# Altium schematic symbol library SYNCBOX_V3I1.SCHLIB: 130 symbols (part 3 of 4)
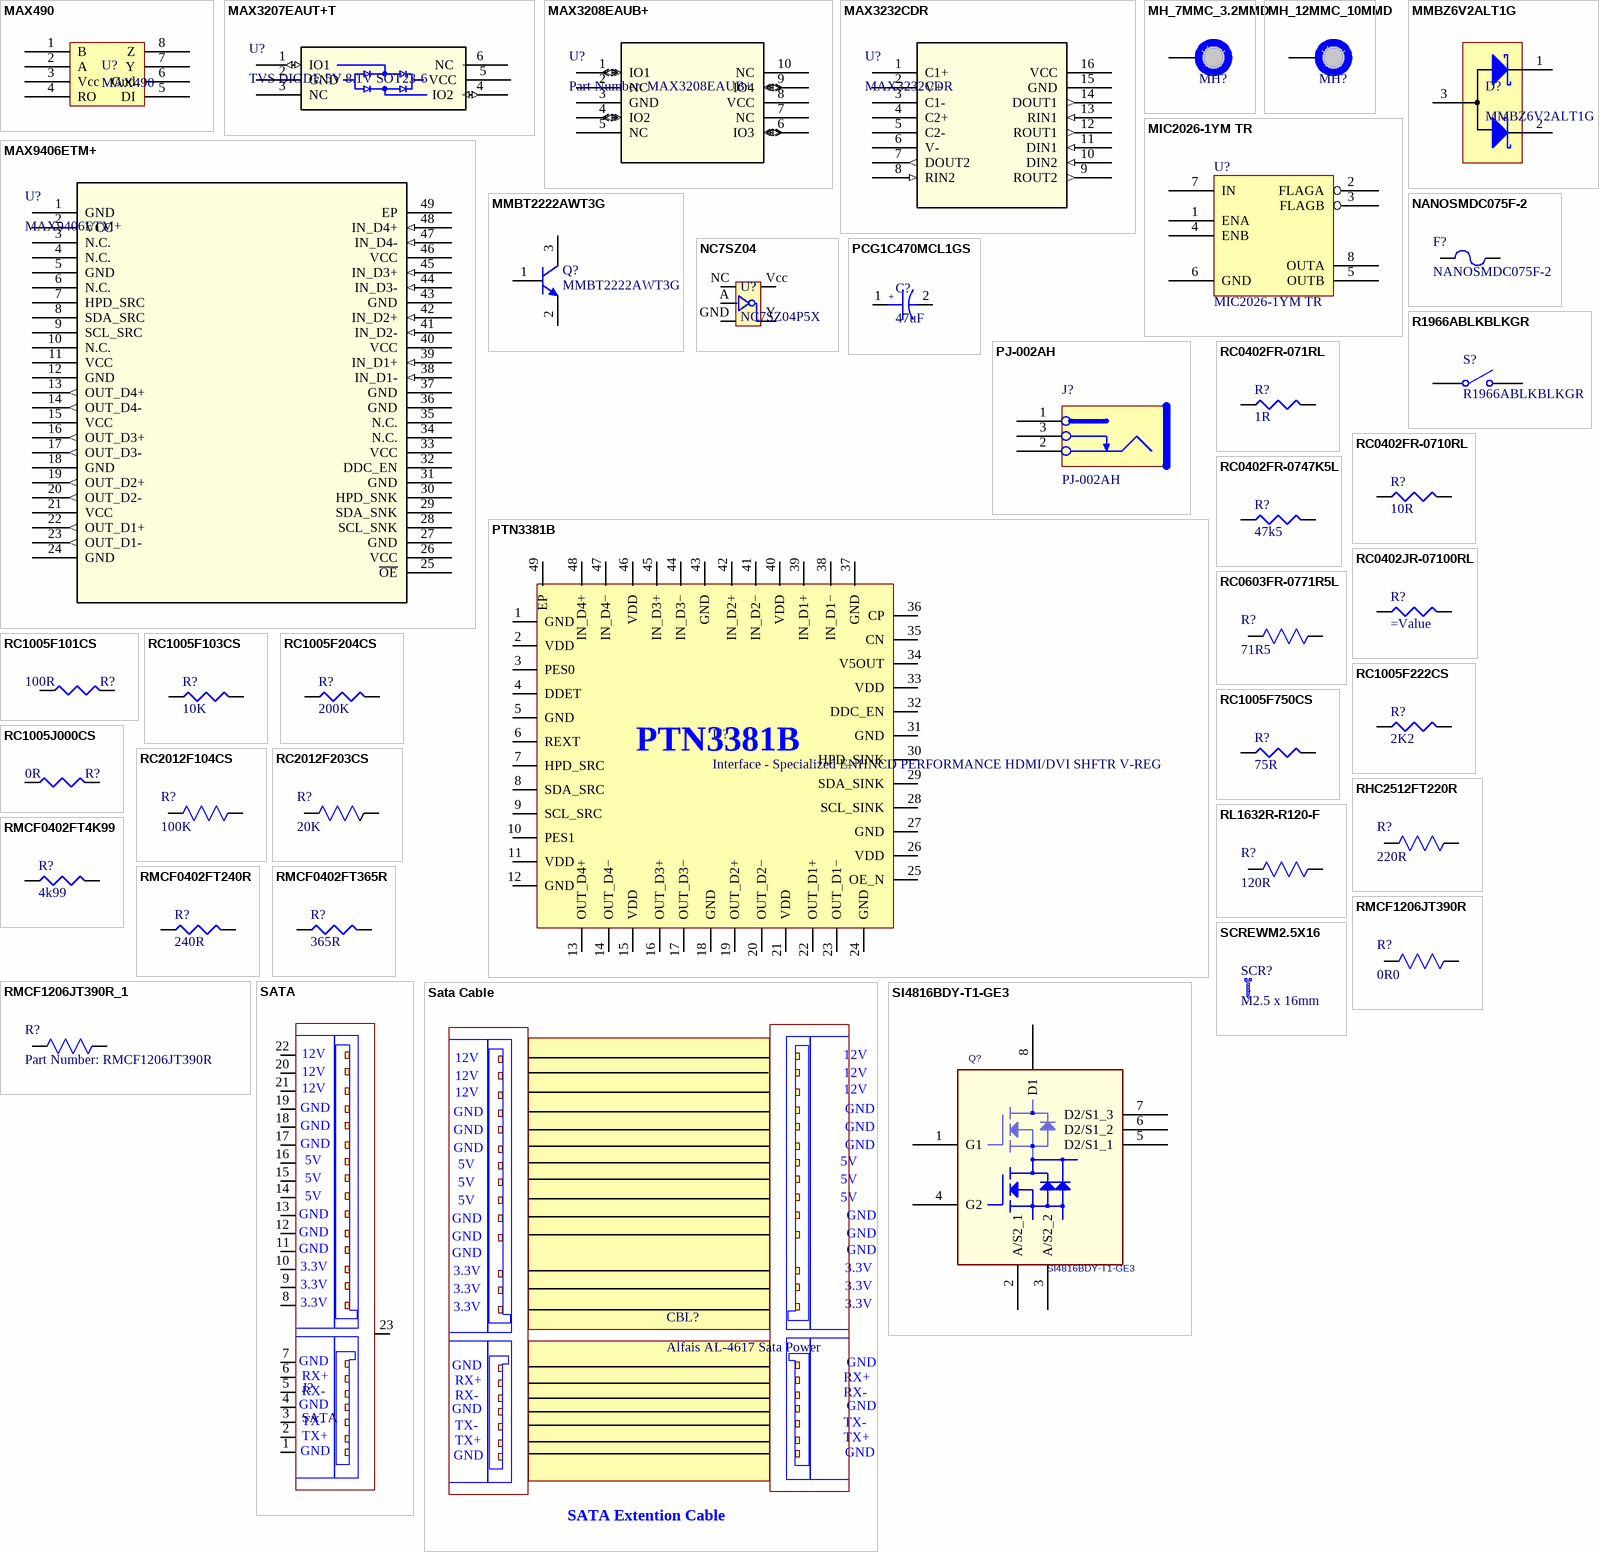
[diagram p5: symbols MAX490 to SI4816BDY-T1-GE3]

## MAX3232CDR
designator U?
IC DRVR/RCVR MULTCH RS232 16SOIC; Vendor: Texas Instruments; Built_By: EMA_UL_Team; C: Copyright (C) 2015 Accelerated Designs. All rights reserved; Number of Drivers/Receivers: 2/2; Duplex: Full; Data Rate: 250kbps; Voltage - Supply: 3 V ~ 5.5 V; Manufacturer_Part_Number: MAX3232CDR; RefDes: RefDes; Type: DEV; Value: Value; Manufacturer 1: Texas Instruments; Manufacturer Part Number 1: MAX3232CDR; RoHS: RoHS Compliant; Stock 1: 20719; Pricing 1: 1=1.89, 10=1.695, 100=1.3624, 500=1.11936, 1000=0.92746 (USD); Packaging: Cut Tape (CT); Part Status: Active; Protocol: RS232; Operating Temperature: 0°C ~ 70°C; Mounting Type: Surface Mount; Package / Case: 16-SOIC (0.154", 3.90mm Width); Supplier Device Package: 16-SOIC; Base Part Number: MAX3232; ComponentLink1URL: http://www.ti.com/lit/ds/symlink/max3232.pdf; ComponentLink1Description: http://www.ti.com/lit/ds/symlink/max3232.pdf; Supplier 1: Digi-Key; Supplier Part Number 1: 296-13094-1-ND; Description 1: IC DRVR/RCVR MULTCH RS232 16SOIC; Category: Integrated Circuits (ICs)
footprint D16
pins: 1 C1+, 2 V+ (power), 3 C1-, 4 C2+, 5 C2-, 6 V- (power), 7 DOUT2 (out), 8 RIN2 (in), 9 ROUT2 (out), 10 DIN2 (in), 11 DIN1 (in), 12 ROUT1 (out), 13 RIN1 (in), 14 DOUT1 (out), 15 GND (power), 16 VCC (power)

## MAX9406ETM+
designator U?
IC DVI/HDMI LVL SHIFTR 48TQFN; Manufacturer 1: Maxim Integrated; Manufacturer Part Number 1: MAX9406ETM+; RoHS: RoHS Compliant; Stock 1: 162; Pricing 1: 1=3.75, 10=3.563, 25=2.94, 50=2.793, 250=2.70752, 500=2.44832 (USD); Packaging: Tube; Part Status: Active; Type: Level Shifter; Applications: Base Stations; Mounting Type: Surface Mount; Package / Case: 48-WFQFN Exposed Pad; Supplier Device Package: 48-TQFN (7x7); Base Part Number: MAX9406; ComponentLink1URL: https://datasheets.maximintegrated.com/en/ds/MAX9406.pdf; ComponentLink1Description: https://datasheets.maximintegrated.com/en/ds/MAX9406.pdf; Supplier 1: Digi-Key; Supplier Part Number 1: MAX9406ETM+-ND; Description 1: IC DVI/HDMI LVL SHIFTR 48TQFN; Category: Integrated Circuits (ICs)
footprint 21-0144H_T4877-6
footprint 21-0144H_T487700
footprint 21-0144H_T487701
pins: 1 GND (power), 2 VCC (power), 3 N.C., 4 N.C., 5 GND (power), 6 N.C., 7 HPD_SRC, 8 SDA_SRC, 9 SCL_SRC, 10 N.C., 11 VCC (power), 12 GND (power), 13 OUT_D4+ (out), 14 OUT_D4- (out), 15 VCC (power), 16 OUT_D3+ (out), 17 OUT_D3- (out), 18 GND (power), 19 OUT_D2+ (out), 20 OUT_D2- (out), 21 VCC, 22 OUT_D1+ (out), 23 OUT_D1- (out), 24 GND (power), 25 ~{OE}, 26 VCC (power), 27 GND (power), 28 SCL_SNK, 29 SDA_SNK, 30 HPD_SNK, 31 GND (power), 32 DDC_EN, 33 VCC (power), 34 N.C., 35 N.C., 36 GND (power), 37 GND (power), 38 IN_D1- (in), 39 IN_D1+ (in), 40 VCC (power), 41 IN_D2- (in), 42 IN_D2+ (in), 43 GND (power), 44 IN_D3- (in), 45 IN_D3+ (in), 46 VCC (power), 47 IN_D4- (in), 48 IN_D4+ (in), 49 EP

## MH_7MMC_3.2MMD
designator MH?  (value not drawn)  (no BOM)
Mounting Hole 7mm Diameter, 3.2mm Drill
footprint MH_7MMC_3.2MMD
pins: 1

## MH_12MMC_10MMD
designator MH?  (value not drawn)  (no BOM)
Mounting Hole 12mm Diameter, 10mm Drill
footprint MH_12MMC_10MMD (Mounting hole)
pins: 1

## MIC2026-1YM TR
designator U?
IC SW DISTRIBUTION 2CHAN 8SOIC; Manufacturer: Micrel Inc; .Checked PCB: used; Number of Outputs: 2; Rds (On): 140 mOhm; Internal Switch(s): Yes; Current Limit: 900mA; Voltage - Input: 2.7 V ~ 5.5 V; .Checked SCH: used; Category: Integrated Circuits (ICs); Family: PMIC - Power Distribution Switches; Manufacturer Part Number: MIC2026-1YM TR; Operating Temperature: -40°C ~ 85°C; Package / Case: 8-SOIC (0.154", 3.90mm Width); Price 1k [$]: 0.53200; Supplier: Digikey; Supplier Part Number: 576-1059-1-ND; Value: MIC2026-1YM TR; Supplier 1: Digi-Key; Supplier Part Number 1: 576-1059-1-ND; RoHS: RoHS Compliant; Stock 1: 44857; Pricing 1: 1=1.14, 25=0.95, 100=0.76, 250=0.57, 500=0.532 (USD); Type: High Side Switch; Mounting Type: Surface Mount; Supplier Device Package: 8-SOIC; Packaging: Cut Tape (CT); ComponentLink1URL: http://www.micrel.com/_PDF/mic2026.pdf; ComponentLink1Description: http://www.micrel.com/_PDF/mic2026.pdf
footprint 8_SOIC_3.9MM
pins: 1 ENA, 2 FLAGA, 3 FLAGB, 4 ENB, 5 OUTB, 6 GND (power), 7 IN (power), 8 OUTA

## MMBT2222AWT3G
designator Q?
TRANS NPN 40V 0.6A SC70-3; Manufacturer 1: ON Semiconductor; Vce Saturation (Max) @ Ib, Ic: 1V @ 50mA, 500mA; DC Current Gain (hFE) (Min) @ Ic, Vce: 100 @ 150mA, 10V; Frequency - Transition: 300MHz; Manufacturer Part Number 1: MMBT2222AWT3G; RoHS: RoHS Compliant; Stock 1: 9990; Pricing 1: 1=0.14, 10=0.126, 100=0.0688, 500=0.04236, 1000=0.02889 (USD); Packaging: Digi-Reel®; Part Status: Active; Transistor Type: NPN; Current - Collector Cutoff (Max): -; Operating Temperature: -55°C ~ 150°C (TJ); Mounting Type: Surface Mount; Package / Case: SC-70, SOT-323; Supplier Device Package: SC-70-3 (SOT323); Base Part Number: MMBT2222A; ComponentLink1URL: http://www.onsemi.com/pub/Collateral/MMBT2222AWT1-D.PDF; ComponentLink1Description: http://www.onsemi.com/pub/Collateral/MMBT2222AWT1-D.PDF; Supplier 1: Digi-Key; Supplier Part Number 1: MMBT2222AWT3GOSDKR-ND; Description 1: TRANS NPN 40V 0.6A SC70-3; Category: Discrete Semiconductor Products
footprint SC70_SOT323
pins: 1 B, 2 E, 3 C

## MMBZ6V2ALT1G
designator D?
TVS DIODE 3V 8.7V SOT23-3; Manufacturer 1: ON Semiconductor; Type: Zener; Voltage - Breakdown (Min): 5.89V; Current - Peak Pulse (10/1000µs): 2.76A; Power - Peak Pulse: 24W; Power Line Protection: No; Manufacturer Part Number 1: MMBZ6V2ALT1G; RoHS: RoHS Compliant; Stock 1: 1537; Pricing 1: 1=0.21, 10=0.172, 100=0.0912, 500=0.06, 1000=0.04081 (USD); Packaging: Cut Tape (CT); Part Status: Active; Voltage - Reverse Standoff (Typ): 3V; Voltage - Clamping (Max) @ Ipp: 8.7V; Applications: Automotive; Capacitance @ Frequency: -; Operating Temperature: -55°C ~ 150°C (TJ); Mounting Type: Surface Mount; Package / Case: TO-236-3, SC-59, SOT-23-3; Supplier Device Package: SOT-23-3 (TO-236); Base Part Number: MMBZ*A; ComponentLink1URL: http://www.onsemi.com/pub/Collateral/MMBZ5V6ALT1-D.PDF; ComponentLink1Description: http://www.onsemi.com/pub/Collateral/MMBZ5V6ALT1-D.PDF; Supplier 1: Digi-Key; Supplier Part Number 1: MMBZ6V2ALT1GOSCT-ND; Description 1: TVS DIODE 3V 8.7V SOT23-3; Category: Circuit Protection
footprint MMBZ6V2ALT1G
pins: 1, 2, 3

## NANOSMDC075F-2
designator F?
PTC RESET FUSE 6V 750MA 1206; Manufacturer 1: Littelfuse Inc.; Vendor: TE Connectivity; Built_By: EMA_UL_Team; Type: DEV; C: Copyright (C) 2015 Accelerated Designs. All rights reserved; Approvals: CSA, TUV, UL; Manufacturer_Part_Number: NANOSMDC075F-2; RefDes: RefDes; Value: Value; Manufacturer Part Number 1: NANOSMDC075F-2; RoHS: RoHS Compliant; Stock 1: 13379; Pricing 1: 1=0.54, 5=0.528, 10=0.512, 50=0.4306, 100=0.3575, 250=0.325, 500=0.27626, 1000=0.24375 (USD); Packaging: Cut Tape (CT); Part Status: Active; Voltage - Max: 6V; Operating Temperature: -40°C ~ 85°C; Ratings: -; Mounting Type: Surface Mount; Package / Case: 1206 (3216 Metric), Concave; Size / Dimension: 0.126" L x 0.063" W (3.20mm x 1.59mm); Height - Seated (Max): -; Thickness (Max): 0.027" (0.68mm); Lead Spacing: -; ComponentLink1URL: http://www.littelfuse.com/~/media/electronics/product_specifications/resettable_ptcs/littelfuse_ptc_nanosmdc075f_2_product_specification.pdf.pdf; ComponentLink1Description: http://www.littelfuse.com/~/media/electronics/product_specifications/resettable_ptcs/littelfuse_ptc_nanosmdc075f_2_product_specification.pdf.pdf; Supplier 1: Digi-Key; Supplier Part Number 1: NANOSMDC075F-2CT-ND; Description 1: PTC RESET FUSE 6V 750MA 1206; Category: Circuit Protection
footprint FUS_NANO_TYCO
footprint FUS_NANO_TYCO-L
footprint FUS_NANO_TYCO-M
pins: 1, 2

## NC7SZ04
designator U?, comment NC7SZ04P5X
IC INVERTER 1CH 1-INP SC70-5; Manufacturer 1: ON Semiconductor; Number of Inputs: 1; Voltage - Supply: 1.65 V ~ 5.5 V; Current - Output High, Low: 32mA, 32mA; Max Propagation Delay @ V, Max CL: 4.3ns @ 5V, 50pF; Manufacturer Part Number 1: NC7SZ04P5X; RoHS: RoHS Compliant; Stock 1: 48414; Pricing 1: 1=0.36, 10=0.269, 100=0.1526, 500=0.10104, 1000=0.07746 (USD); Packaging: Cut Tape (CT); Part Status: Active; Logic Type: Inverter; Features: -; Logic Level - Low: -; Logic Level - High: -; Operating Temperature: -40°C ~ 85°C; Mounting Type: Surface Mount; Supplier Device Package: SC-70-5; Package / Case: 5-TSSOP, SC-70-5, SOT-353; Base Part Number: 7SZ04; ComponentLink1URL: https://www.fairchildsemi.com/datasheets/NC/NC7SZ04.pdf; ComponentLink1Description: https://www.fairchildsemi.com/datasheets/NC/NC7SZ04.pdf; Supplier 1: Digi-Key; Supplier Part Number 1: NC7SZ04P5XCT-ND; Description 1: IC INVERTER 1CH 1-INP SC70-5; Category: Integrated Circuits (ICs)
footprint NC7SZ04P5X
pins: A 2, GND 3, NC 1, Vcc 4, Y 5 (hiz)

## PCG1C470MCL1GS
designator C?, comment 47uF
CAP ALUM POLY 47UF 20% 16V SMD; Manufacturer 1: Nichicon; Manufacturer Part Number 1: PCG1C470MCL1GS; Type: Polymer; ESR (Equivalent Series Resistance): 40 mOhm; Lifetime @ Temp.: 2000 Hrs @ 105°C; Surface Mount Land Size: 0.209" L x 0.209" W (5.30mm x 5.30mm); RoHS: RoHS Compliant; Stock 1: 4045; Pricing 1: 1=1.42, 10=1.123, 100=0.8422, 500=0.63636 (USD); Packaging: Digi-Reel®; Part Status: Active; Tolerance: ±20%; Operating Temperature: -55°C ~ 105°C; Ratings: -; Applications: General Purpose; Lead Spacing: -; Size / Dimension: 0.197" Dia (5.00mm); Height - Seated (Max): 0.236" (6.00mm); Mounting Type: Surface Mount; Package / Case: Radial, Can - SMD; ComponentLink1URL: http://nichicon-us.com/english/products/pdfs/e-pcg.pdf; ComponentLink1Description: http://nichicon-us.com/english/products/pdfs/e-pcg.pdf; Supplier 1: Digi-Key; Supplier Part Number 1: 493-3095-6-ND; Description 1: CAP ALUM POLY 47UF 20% 16V SMD; Category: Capacitors
footprint CAP_P-B
footprint CAP_P-B-L
footprint CAP_P-B-M
pins: 1, 2
text: +

## PJ-002AH
designator J?
CONN PWR JACK 2.1X5.5MM HIGH CUR; Manufacturer: CUI Inc; .Checked PCB: used; Mating connector: 2.1mm ID, 5.5mm OD; Gender: Male; Number of Positions/Contacts: 2 Conductors, 3 Contacts; Internal Switch(s): Single Switch, Normally Closed; Shielding: Unshielded; Voltage - Rated: 24VDC; Current Rating: 5A; .Checked SCH: used; Category: Connectors, Interconnects; Family: Barrel - Power; Manufacturer Part Number: PJ-002AH; Operating Temperature: -25°C ~ 85°C; Price 1k [$]: 0.23625; Supplier: Digikey; Supplier Part Number: CP-002AH-ND; Value: PJ-002AH; Supplier 1: Digi-Key; Supplier Part Number 1: CP-002AH-ND; RoHS: RoHS Compliant; Stock 1: 138933; Pricing 1: 1=1.01, 10=0.704, 100=0.4724, 500=0.3819, 1000=0.3417, 2500=0.27135 (USD); Connector Type: Jack; Plug/Mating Plug Diameter: 2.1mm ID, 5.5mm OD; Mounting Type: Through Hole, Right Angle; Termination: Solder Eyelet(s); Features: -; Color: Black; Contact Material: Copper Alloy; Contact Material - Plating: Nickel; Housing Color: Black; Housing Material: Thermoplastic; ComponentLink1URL: http://products.cui.com/GetSpecForDigiKey.aspx?MFGNum=PJ-002AH; ComponentLink1Description: http://products.cui.com/GetSpecForDigiKey.aspx?MFGNum=PJ-002AH
footprint POWER_JACK_5.5_2.1MM_NS
pins: 1, 2, 3

## PTN3381B
designator U?, comment Interface - Specialized ENHNCD PERFORMANCE HDMI/DVI SHFTR V-REG
Manufacturer 1: NXP; Manufacturer Part Number 1: PTN3381BBS,518; Brand: NXP Semiconductors; RoHS: RoHS Compliant; Stock 1: 2570; Pricing 1: 1=1.94, 10=1.65, 100=1.32, 500=1.15, 1000=0.952, 4000=0.854, 8000=0.821 (USD); Packaging: Cut Tape; Product Type: Interface - Specialized; Standard Pack Qty: 4000; Subcategory: Interface ICs; RoHS - Mouser: Y; Minimum Order Quantity: 1; Reeling: True; ComponentLink1URL: https://www.mouser.com/datasheet/2/302/PTN3381B-1127737.pdf; ComponentLink1Description: https://www.mouser.com/datasheet/2/302/PTN3381B-1127737.pdf; Supplier 1: Mouser; Supplier Part Number 1: 771-PTN3381BBS518; Description 1: Interface - Specialized ENHNCD PERFORMANCE HDMI/DVI SHFTR V-REG; Category: Interface - Specialized
footprint HVQFN48
pins: 1 GND, 2 VDD, 3 PES0, 4 DDET, 5 GND, 6 REXT, 7 HPD_SRC, 8 SDA_SRC, 9 SCL_SRC, 10 PES1, 11 VDD, 12 GND, 13 OUT_D4+, 14 OUT_D4−, 15 VDD, 16 OUT_D3+, 17 OUT_D3−, 18 GND, 19 OUT_D2+, 20 OUT_D2−, 21 VDD, 22 OUT_D1+, 23 OUT_D1−, 24 GND, 25 OE_N, 26 VDD, 27 GND, 28 SCL_SINK, 29 SDA_SINK, 30 HPD_SINK, 31 GND, 32 DDC_EN, 33 VDD, 34 V5OUT, 35 CN, 36 CP, 37 GND, 38 IN_D1−, 39 IN_D1+, 40 VDD, 41 IN_D2−, 42 IN_D2+, 43 GND, 44 IN_D3−, 45 IN_D3+, 46 VDD, 47 IN_D4−, 48 IN_D4+, 49 EP

## R1966ABLKBLKGR
designator S?
SWITCH ROCKER SPST 15A 125V; Manufacturer 1: E-Switch; Switch Function: On-Off; Current Rating: 15A (AC); Actuator Type: Concave (Curved); Color - Actuator/Cap: Black; Actuator Marking: O I; Mechanical Life: 30,000 Cycles; Electrical Life: 10,000 Cycles; Published: 24-Mar-1999; LatestRevisionDate: 17-Jul-2002; LatestRevisionNote: Re-released for DXP Platform.; PackageReference: SPST-2; Publisher: Altium Limited; PackageDescription: Switch; 2 Leads; Manufacturer Part Number 1: R1966ABLKBLKGR; RoHS: RoHS Compliant; Stock 1: 9; Pricing 1: 1=1.58, 10=1.507, 25=1.4384, 50=1.37, 100=1.3015, 250=1.26724, 500=1.19876, 1000=1.06175, 5000=1.0275 (USD); Packaging: Bulk; Part Status: Active; Circuit: SPST; Illumination Type, Color: -; Illumination Voltage (Nominal): -; Mounting Type: Panel Mount, Snap-In, Right Angle; Termination Style: PC Pin; Ingress Protection: -; Features: -; Panel Cutout Dimensions: Rectangular - 19.40mm x 13.00mm; Operating Temperature: -30°C ~ 65°C; ComponentLink1URL: http://spec_sheets.e-switch.com/specs/M301223.pdf; ComponentLink1Description: http://spec_sheets.e-switch.com/specs/M301223.pdf; Supplier 1: Digi-Key; Supplier Part Number 1: EG2578-ND; Description 1: SWITCH ROCKER SPST 15A 125V; Category: Switches
footprint RockerSwitch
pins: 1 COMMON, 2 NO

## RC0402FR-071RL
designator R?, comment 1R
RES 1.00 OHM 1/16W 1% 0402 SM; Manufacturer: Yageo; Manufacturer Part Number: RC0402FR-071RL; Resistance (Ohms): 1; Power (Watts): 0.063W, 1/16W; .Checked PCB: used; Temperature Coefficient: ±200ppm/°C; Category: Resistors; Package / Case: 0402 (1005 Metric); Price 1k [$]: 0.01421; Tolerance: ±1%; Value: 1R; .Checked SCH: used; Supplier Part Number: 311-1.00LRCT-ND; Supplier: Digikey; Supplier 1: Digi-Key; Supplier Part Number 1: 311-1.00LRCT-ND; RoHS: RoHS Compliant; Stock 1: 347765; Pricing 1: 10=0.019, 50=0.0142, 100=0.0109, 250=0.00808, 500=0.00596, 1000=0.00397 (USD); Composition: Thick Film; Features: -; Size / Dimension: 0.039" L x 0.020" W (1.00mm x 0.50mm); Height: 0.016" (0.40mm); Number of Terminations: 2; Packaging: Cut Tape (CT); ComponentLink1URL: http://www.yageo.com/documents/recent/PYu-RC0402_51_RoHS_L_6.pdf; ComponentLink1Description: http://www.yageo.com/documents/recent/PYu-RC0402_51_RoHS_L_6.pdf
footprint R0402
pins: 1, 2

## RC0402FR-0710RL
designator R?, comment 10R
RES 10.0 OHM 1/16W 1% 0402 SMD; Manufacturer: Yageo; Manufacturer Part Number: RC0402FR-0710RL; Resistance (Ohms): 10; Power (Watts): 0.063W, 1/16W; .Checked PCB: used; Temperature Coefficient: ±200ppm/°C; Category: Resistors; Package / Case: 0402 (1005 Metric); Price 1k [$]: 0.01421; Tolerance: ±1%; Value: 10R; .Checked SCH: used; Supplier Part Number: 311-10.0LRCT-ND; Supplier: Digikey; Supplier 1: Digi-Key; Supplier Part Number 1: 311-10.0LRCT-ND; RoHS: RoHS Compliant; Stock 1: 681416; Pricing 1: 10=0.014, 50=0.0104, 100=0.0079, 250=0.00584, 500=0.00432, 1000=0.00288 (USD); Composition: Thick Film; Features: -; Size / Dimension: 0.039" L x 0.020" W (1.00mm x 0.50mm); Height: 0.016" (0.40mm); Number of Terminations: 2; Packaging: Cut Tape (CT); ComponentLink1URL: http://www.yageo.com/documents/recent/PYu-RC0402_51_RoHS_L_6.pdf; ComponentLink1Description: http://www.yageo.com/documents/recent/PYu-RC0402_51_RoHS_L_6.pdf
footprint R0402
pins: 1, 2

## RC0402FR-0747K5L
designator R?, comment 47k5
RES 47.5K OHM 1/16W 1% 0402 SMD; Manufacturer: Yageo; Manufacturer Part Number: RC0402FR-0747K5L; Power (Watts): 0.063W, 1/16W; Temperature Coefficient: ±100ppm/°C; .Checked PCB: RF; Supplier 1: Digi-Key; Supplier Part Number 1: 311-47.5KLRCT-ND; RoHS: RoHS Compliant; Category: Resistors; Stock 1: 59607; Pricing 1: 10=0.014, 100=0.0063, 500=0.00382, 1000=0.0027, 5000=0.00203 (USD); Resistance (Ohms): 47.5K; Composition: Thick Film; Features: -; Tolerance: ±1%; Package / Case: 0402 (1005 Metric); Size / Dimension: 0.039" L x 0.020" W (1.00mm x 0.50mm); Height: 0.016" (0.40mm); Number of Terminations: 2; Packaging: Cut Tape (CT); ComponentLink1URL: http://www.yageo.com/documents/recent/PYu-RC0402_51_RoHS_L_6.pdf; ComponentLink1Description: http://www.yageo.com/documents/recent/PYu-RC0402_51_RoHS_L_6.pdf; .Checked SCH: RF
footprint R0402
pins: 1, 2

## RC0402JR-07100RL
designator R?
RES SMD 100 OHM 5% 1/16W 0402; Manufacturer 1: Yageo; Manufacturer Part Number 1: RC0402JR-07100RL; .Checked PCB: used; Resistance: 100 Ohms; Power Rating: 62.5 mW (1/16 W); Temperature Coefficient: 100 PPM / C; Voltage Rating: 50 V; Unit Weight: 0.000023 oz; .Checked SCH: used; Stock 1: 1979840; Pricing 1: 1=0.098, 500=0.004, 1500=0.0023, 2500=0.0017, 5000=0.0012 (USD); Product Category: Thick Film Resistors; RoHS: True; Brand: Yageo; Tolerance: 5 %; Case Code - in: 0402; Case Code - mm: 1005; Operating Temperature Range: - 55 C to + 155 C; Series: RC; Height: 0.35 mm; Length: 1 mm; Package / Case: 0402 (1005 metric); Packaging: Reel; Product: Thick Film Resistors General Purpose; Termination Style: SMD/SMT; Type: General Purpose Chip Resistor Surface Mount; Width: 0.5 mm; ComponentLink1URL: http://www.farnell.com/datasheets/2167052.pdf?src-supplier=Element14; ComponentLink1Description: http://www.farnell.com/datasheets/2167052.pdf?src-supplier=Element14; ComponentLink2URL: http://www.yageo.com/documents/recent/PYu-RC_Group_51_RoHS_L_10.pdf?src-supplier=Digi-Key; ComponentLink2Description: http://www.yageo.com/documents/recent/PYu-RC_Group_51_RoHS_L_10.pdf?src-supplier=Digi-Key; ComponentLink3URL: http://www.yageo.com/documents/recent/PYu-RC_Group_51_RoHS_L_9.pdf?src-supplier=Digi-Key; ComponentLink3Description: http://www.yageo.com/documents/recent/PYu-RC_Group_51_RoHS_L_9.pdf?src-supplier=Digi-Key; ComponentLink4URL: http://www.yageo.com/documents/recent/PYu-RC0402_51_RoHS_L_6_r.pdf?src-supplier=Future+Electronics; ComponentLink4Description: http://www.yageo.com/documents/recent/PYu-RC0402_51_RoHS_L_6_r.pdf?src-supplier=Future+Electronics; ComponentLink5URL: http://www.mouser.com/ds/2/447/PYu-RC0402_51_RoHS_L_6_r-8721.pdf?src-supplier=Mouser; ComponentLink5Description: http://www.mouser.com/ds/2/447/PYu-RC0402_51_RoHS_L_6_r-8721.pdf?src-supplier=Mouser; ComponentLink6URL: http://www.farnell.com/datasheets/1018594.pdf?src-supplier=Element14; ComponentLink6Description: http://www.farnell.com/datasheets/1018594.pdf?src-supplier=Element14; Supplier 1: Future Electronics; Supplier Part Number 1: RC0402JR-07100RL-CUTT; Description 1: RES SMD 100 OHM 5% 1/16W 0402
footprint R0402
pins: 1, 2

## RC0603FR-0771R5L
designator R?, comment 71R5
RES SMD 71.5 OHM 1% 1/10W 0603; Manufacturer_Part_Number: RC0603FR-0771R5L; Vendor: Yageo; Built_By: EMA_UL_Team; C: Copyright (C) 2015 Accelerated Designs. All rights reserved; Power (Watts): 0.1W, 1/10W; Temperature Coefficient: ±100ppm/°C; RefDes: RefDes; Type: DEV; Value: Value; Manufacturer 1: Yageo; Manufacturer Part Number 1: RC0603FR-0771R5L; RoHS: RoHS Compliant; Stock 1: 59924; Pricing 1: 1=0.1, 10=0.026, 100=0.0107, 1000=0.00478, 2500=0.00415 (USD); Packaging: Cut Tape (CT); Part Status: Active; Tolerance: ±1%; Composition: Thick Film; Features: Moisture Resistant; Operating Temperature: -55°C ~ 155°C; Package / Case: 0603 (1608 Metric); Supplier Device Package: 0603; Size / Dimension: 0.063" L x 0.032" W (1.60mm x 0.80mm); Height - Seated (Max): 0.022" (0.55mm); Failure Rate: -; ComponentLink1URL: http://www.yageo.com/documents/recent/PYu-RC_Group_51_RoHS_L_9.pdf; ComponentLink1Description: http://www.yageo.com/documents/recent/PYu-RC_Group_51_RoHS_L_9.pdf; Supplier 1: Digi-Key; Supplier Part Number 1: 311-71.5HRCT-ND; Description 1: RES SMD 71.5 OHM 1% 1/10W 0603; Category: Resistors
footprint RC0603N
pins: 1, 2

## RC1005F101CS
designator R?, comment 100R
RES SMD 100 OHM 1% 1/16W 0402; Manufacturer 1: Samsung Electro-Mechanics; Manufacturer Part Number 1: RC1005F101CS; .Checked PCB: RF; Power (Watts): 0.063W, 1/16W; Temperature Coefficient: ±100ppm/°C; .Checked SCH: RF; RoHS: RoHS Compliant; Stock 1: 461434; Pricing 1: 1=0.1, 10=0.021, 100=0.0087, 1000=0.00391, 2500=0.00339, 5000=0.0028 (USD); Packaging: Digi-Reel®; Part Status: Active; Tolerance: ±1%; Composition: Thick Film; Features: Moisture Resistant; Operating Temperature: -55°C ~ 155°C; Package / Case: 0402 (1005 Metric); Supplier Device Package: 0402; Size / Dimension: 0.039" L x 0.020" W (1.00mm x 0.50mm); Height - Seated (Max): 0.016" (0.40mm); Failure Rate: -; ComponentLink1URL: http://www.samsungsem.com/kr/support/product-search/chip-resistor/RC1005F101CS.jsp; ComponentLink1Description: http://www.samsungsem.com/kr/support/product-search/chip-resistor/RC1005F101CS.jsp; Supplier 1: Digi-Key; Supplier Part Number 1: 1276-3429-6-ND; Description 1: RES SMD 100 OHM 1% 1/16W 0402; Category: Resistors; value: 100R
footprint R0402
pins: 1, 2

## RC1005F103CS
designator R?, comment 10K
RES SMD 10K OHM 1% 1/16W 0402; Manufacturer 1: Samsung Electro-Mechanics; Manufacturer Part Number 1: RC1005F103CS; .Checked PCB: used; Power (Watts): 0.063W, 1/16W; Temperature Coefficient: ±100ppm/°C; .Checked SCH: used; RoHS: RoHS Compliant; Stock 1: 12738811; Pricing 1: 1=0.1, 10=0.021, 100=0.0087, 1000=0.00391, 2500=0.00339, 5000=0.0028 (USD); Packaging: Digi-Reel®; Part Status: Active; Tolerance: ±1%; Composition: Thick Film; Features: Moisture Resistant; Operating Temperature: -55°C ~ 155°C; Package / Case: 0402 (1005 Metric); Supplier Device Package: 0402; Size / Dimension: 0.039" L x 0.020" W (1.00mm x 0.50mm); Height - Seated (Max): 0.016" (0.40mm); Failure Rate: -; ComponentLink1URL: http://www.samsungsem.com/kr/support/product-search/chip-resistor/RC1005F103CS.jsp; ComponentLink1Description: http://www.samsungsem.com/kr/support/product-search/chip-resistor/RC1005F103CS.jsp; Supplier 1: Digi-Key; Supplier Part Number 1: 1276-3431-6-ND; Description 1: RES SMD 10K OHM 1% 1/16W 0402; Category: Resistors
footprint R0402
pins: 1, 2

## RC1005F204CS
designator R?, comment 200K
RES SMD 200K OHM 1% 1/16W 0402; Manufacturer 1: Samsung Electro-Mechanics; Manufacturer Part Number 1: RC1005F204CS; .Checked PCB: used; Power (Watts): 0.063W, 1/16W; Temperature Coefficient: ±100ppm/°C; .Checked SCH: used; RoHS: RoHS Compliant; Stock 1: 325433; Pricing 1: 1=0.1, 10=0.021, 100=0.0087, 1000=0.00391, 2500=0.00339, 5000=0.0028 (USD); Packaging: Digi-Reel®; Part Status: Active; Tolerance: ±1%; Composition: Thick Film; Features: Moisture Resistant; Operating Temperature: -55°C ~ 155°C; Package / Case: 0402 (1005 Metric); Supplier Device Package: 0402; Size / Dimension: 0.039" L x 0.020" W (1.00mm x 0.50mm); Height - Seated (Max): 0.016" (0.40mm); Failure Rate: -; ComponentLink1URL: http://www.samsungsem.com/kr/support/product-search/chip-resistor/RC1005F204CS.jsp; ComponentLink1Description: http://www.samsungsem.com/kr/support/product-search/chip-resistor/RC1005F204CS.jsp; Supplier 1: Digi-Key; Supplier Part Number 1: 1276-3449-6-ND; Description 1: RES SMD 200K OHM 1% 1/16W 0402; Category: Resistors
footprint R0402
pins: 1, 2

## RC1005F222CS
designator R?, comment 2K2
RES SMD 2.2K OHM 1% 1/16W 0402; Manufacturer 1: Samsung Electro-Mechanics; Manufacturer Part Number 1: RC1005F222CS; .Checked PCB: used; Power (Watts): 0.063W, 1/16W; Temperature Coefficient: ±100ppm/°C; .Checked SCH: used; RoHS: RoHS Compliant; Stock 1: 956467; Pricing 1: 1=0.1, 10=0.021, 100=0.0087, 1000=0.00391, 2500=0.00339, 5000=0.0028 (USD); Packaging: Digi-Reel®; Part Status: Active; Tolerance: ±1%; Composition: Thick Film; Features: Moisture Resistant; Operating Temperature: -55°C ~ 155°C; Package / Case: 0402 (1005 Metric); Supplier Device Package: 0402; Size / Dimension: 0.039" L x 0.020" W (1.00mm x 0.50mm); Height - Seated (Max): 0.016" (0.40mm); Failure Rate: -; ComponentLink1URL: http://www.samsungsem.com/kr/support/product-search/chip-resistor/RC1005F222CS.jsp; ComponentLink1Description: http://www.samsungsem.com/kr/support/product-search/chip-resistor/RC1005F222CS.jsp; Supplier 1: Digi-Key; Supplier Part Number 1: 1276-4046-6-ND; Description 1: RES SMD 2.2K OHM 1% 1/16W 0402; Category: Resistors
footprint R0402
pins: 1, 2

## RC1005F750CS
designator R?, comment 75R
RES SMD 75 OHM 1% 1/16W 0402; Manufacturer 1: Samsung Electro-Mechanics; Manufacturer Part Number 1: RC1005F750CS; .Checked PCB: used; Power (Watts): 0.063W, 1/16W; Temperature Coefficient: ±100ppm/°C; .Checked SCH: used; RoHS: RoHS Compliant; Stock 1: 924150; Pricing 1: 1=0.1, 10=0.021, 100=0.0087, 1000=0.00391, 2500=0.00339, 5000=0.0028 (USD); Packaging: Digi-Reel®; Part Status: Active; Tolerance: ±1%; Composition: Thick Film; Features: Moisture Resistant; Operating Temperature: -55°C ~ 155°C; Package / Case: 0402 (1005 Metric); Supplier Device Package: 0402; Size / Dimension: 0.039" L x 0.020" W (1.00mm x 0.50mm); Height - Seated (Max): 0.016" (0.40mm); Failure Rate: -; ComponentLink1URL: http://www.samsungsem.com/kr/support/product-search/chip-resistor/RC1005F750CS.jsp; ComponentLink1Description: http://www.samsungsem.com/kr/support/product-search/chip-resistor/RC1005F750CS.jsp; Supplier 1: Digi-Key; Supplier Part Number 1: 1276-3476-6-ND; Description 1: RES SMD 75 OHM 1% 1/16W 0402; Category: Resistors
footprint R0402
pins: 1, 2

## RC1005J000CS
designator R?, comment 0R
RES SMD 0 OHM JUMPER 1/16W 0402; Manufacturer 1: Samsung Electro-Mechanics; Manufacturer Part Number 1: RC1005J000CS; .Checked PCB: used; Power (Watts): 0.063W, 1/16W; .Checked SCH: used; RoHS: RoHS Compliant; Stock 1: 9624698; Pricing 1: 1=0.1, 10=0.016, 25=0.0116, 50=0.009, 100=0.0066, 250=0.005, 500=0.004, 1000=0.00295, 5000=0.00211 (USD); Packaging: Digi-Reel®; Part Status: Active; Tolerance: Jumper; Composition: Thick Film; Features: Moisture Resistant; Temperature Coefficient: -; Operating Temperature: -55°C ~ 155°C; Package / Case: 0402 (1005 Metric); Supplier Device Package: 0402; Size / Dimension: 0.039" L x 0.020" W (1.00mm x 0.50mm); Height - Seated (Max): 0.016" (0.40mm); Failure Rate: -; ComponentLink1URL: http://www.samsungsem.com/kr/support/product-search/chip-resistor/RC1005J000CS.jsp; ComponentLink1Description: http://www.samsungsem.com/kr/support/product-search/chip-resistor/RC1005J000CS.jsp; Supplier 1: Digi-Key; Supplier Part Number 1: 1276-3480-6-ND; Description 1: RES SMD 0 OHM JUMPER 1/16W 0402; Category: Resistors
footprint R0402
pins: 1, 2

## RC2012F104CS
designator R?, comment 100K
RES SMD 100K OHM 1% 1/8W 0805; Manufacturer 1: Samsung Electro-Mechanics; Manufacturer Part Number 1: RC2012F104CS; Power (Watts): 0.125W, 1/8W; Temperature Coefficient: ±100ppm/°C; RoHS: RoHS Compliant; Stock 1: 106479; Pricing 1: 1=0.1, 10=0.059, 100=0.024, 1000=0.01079, 2500=0.00936 (USD); Packaging: Digi-Reel®; Part Status: Active; Tolerance: ±1%; Composition: Thick Film; Features: Moisture Resistant; Operating Temperature: -55°C ~ 155°C; Package / Case: 0805 (2012 Metric); Supplier Device Package: 0805; Size / Dimension: 0.079" L x 0.049" W (2.00mm x 1.25mm); Height - Seated (Max): 0.026" (0.65mm); Failure Rate: -; ComponentLink1URL: http://www.samsungsem.com/kr/support/product-search/chip-resistor/RC2012F104CS.jsp; ComponentLink1Description: http://www.samsungsem.com/kr/support/product-search/chip-resistor/RC2012F104CS.jsp; Supplier 1: Digi-Key; Supplier Part Number 1: 1276-3512-6-ND; Description 1: RES SMD 100K OHM 1% 1/8W 0805; Category: Resistors
footprint STA_RNCP0805
footprint STA_RNCP0805-L
footprint STA_RNCP0805-M
pins: 1, 2

## RC2012F203CS
designator R?, comment 20K
RES SMD 20K OHM 1% 1/8W 0805; Manufacturer 1: Samsung Electro-Mechanics; Manufacturer Part Number 1: RC2012F203CS; Power (Watts): 0.125W, 1/8W; Temperature Coefficient: ±100ppm/°C; RoHS: RoHS Compliant; Stock 1: 45533; Pricing 1: 1=0.1, 10=0.059, 100=0.024, 1000=0.01079, 2500=0.00936 (USD); Packaging: Digi-Reel®; Part Status: Active; Tolerance: ±1%; Composition: Thick Film; Features: Moisture Resistant; Operating Temperature: -55°C ~ 155°C; Package / Case: 0805 (2012 Metric); Supplier Device Package: 0805; Size / Dimension: 0.079" L x 0.049" W (2.00mm x 1.25mm); Height - Seated (Max): 0.026" (0.65mm); Failure Rate: -; ComponentLink1URL: http://www.samsungsem.com/kr/support/product-search/chip-resistor/RC2012F203CS.jsp; ComponentLink1Description: http://www.samsungsem.com/kr/support/product-search/chip-resistor/RC2012F203CS.jsp; Supplier 1: Digi-Key; Supplier Part Number 1: 1276-5352-6-ND; Description 1: RES SMD 20K OHM 1% 1/8W 0805; Category: Resistors
footprint STA_RNCP0805
pins: 1, 2

## RHC2512FT220R
designator R?, comment 220R
RES 220 OHM 1% 2W 2512; Manufacturer_Part_Number: RHC2512FT220R; Manufacturer 1: Stackpole Electronics Inc.; Vendor: Stackpole International; Built_By: EMA_UL_Team; C: Copyright (C) 2015 Accelerated Designs. All rights reserved; Temperature Coefficient: ±100ppm/°C; RefDes: RefDes; Type: DEV; Value: Value; Manufacturer Part Number 1: RHC2512FT220R; RoHS: RoHS Compliant; Stock 1: 14718; Pricing 1: 1=0.92, 10=0.799, 100=0.5566, 1000=0.3267 (USD); Packaging: Digi-Reel®; Part Status: Active; Tolerance: ±1%; Power (Watts): 2W; Composition: Thick Film; Features: Moisture Resistant; Operating Temperature: -55°C ~ 155°C; Package / Case: 2512 (6432 Metric); Supplier Device Package: 2512; Size / Dimension: 0.248" L x 0.126" W (6.30mm x 3.20mm); Height - Seated (Max): 0.028" (0.70mm); Failure Rate: -; ComponentLink1URL: https://www.seielect.com/Catalog/SEI-rhc.pdf; ComponentLink1Description: https://www.seielect.com/Catalog/SEI-rhc.pdf; Supplier 1: Digi-Key; Supplier Part Number 1: RHC2512FT220RDKR-ND; Description 1: RES 220 OHM 1% 2W 2512; Category: Resistors
footprint STA_RHC2512
pins: 1, 2

## RL1632R-R120-F
designator R?, comment 120R
RES 0.12 OHM 1% 1/2W 1206; Manufacturer_Part_Number: RL1632R-R120-F; Vendor: Susumu; Built_By: EMA_UL_Team; C: Copyright (C) 2015 Accelerated Designs. All rights reserved; Power (Watts): 0.5W, 1/2W; Temperature Coefficient: 0/ +100ppm/°C; RefDes: RefDes; Type: DEV; Value: Value; Manufacturer 1: Susumu; Manufacturer Part Number 1: RL1632R-R120-F; RoHS: RoHS Compliant; Stock 1: 49813; Pricing 1: 1=0.68, 10=0.485, 25=0.3784, 50=0.3202, 100=0.2523, 250=0.21344, 500=0.17464, 1000=0.13583 (USD); Packaging: Cut Tape (CT); Part Status: Active; Tolerance: ±1%; Composition: Thin Film; Features: Current Sense; Operating Temperature: -55°C ~ 125°C; Package / Case: 1206 (3216 Metric); Supplier Device Package: 1206; Size / Dimension: 0.126" L x 0.063" W (3.20mm x 1.60mm); Height - Seated (Max): 0.026" (0.65mm); Failure Rate: -; ComponentLink1URL: http://www.susumu.co.jp/common/pdf/n_catalog_partition08_en.pdf; ComponentLink1Description: http://www.susumu.co.jp/common/pdf/n_catalog_partition08_en.pdf; Supplier 1: Digi-Key; Supplier Part Number 1: RL16R.12FCT-ND; Description 1: RES 0.12 OHM 1% 1/2W 1206; Category: Resistors
footprint RES_1632
pins: 1, 2

## RMCF0402FT4K99
designator R?, comment 4k99
RES TF 4.99K OHM 1% 1/16W 0402; Manufacturer: Stackpole Electronics Inc; Manufacturer Part Number: RMCF0402FT4K99; Power (Watts): 0.063W, 1/16W; .Checked PCB: used; Temperature Coefficient: ±100ppm/°C; Category: Resistors; Supplier Part Number: RMCF0402FT4K99CT-ND; Package / Case: 0402 (1005 Metric); Price 1k [$]: 0.00384; Resistance (Ohms): 4.99K; Tolerance: ±1%; Value: 4k99; .Checked SCH: used; Supplier: Digikey; Supplier 1: Digi-Key; Supplier Part Number 1: RMCF0402FT4K99CT-ND; RoHS: RoHS Compliant; Stock 1: 48509; Pricing 1: 1=0.04, 10=0.025, 50=0.0138, 100=0.0105, 250=0.0078, 500=0.00576, 1000=0.00384 (USD); Composition: Thick Film; Features: -; Size / Dimension: 0.039" L x 0.020" W (1.00mm x 0.50mm); Height: 0.016" (0.40mm); Number of Terminations: 2; Packaging: Cut Tape (CT); ComponentLink1URL: http://www.seielect.com/Catalog/SEI-RMCF.pdf; ComponentLink1Description: http://www.seielect.com/Catalog/SEI-RMCF.pdf
footprint R0402
pins: 1, 2

## RMCF0402FT240R
designator R?, comment 240R
RES TF 240 OHM 1% 0.0625W 0402; Manufacturer: Stackpole Electronics Inc; Manufacturer Part Number: RMCF0402FT240R; Resistance (Ohms): 240; Power (Watts): 0.063W, 1/16W; .Checked PCB: used; Temperature Coefficient: ±100ppm/°C; Category: Resistors; Supplier Part Number: RMCF0402FT240RCT-ND; Package / Case: 0402 (1005 Metric); Price 1k [$]: 0.00384; Tolerance: ±1%; Value: 240R; .Checked SCH: used; Supplier: Digikey; Supplier 1: Digi-Key; Supplier Part Number 1: RMCF0402FT240RCT-ND; RoHS: RoHS Compliant; Stock 1: 39860; Pricing 1: 1=0.04, 10=0.025, 50=0.0138, 100=0.0105, 250=0.0078, 500=0.00576, 1000=0.00384 (USD); Composition: Thick Film; Features: -; Size / Dimension: 0.039" L x 0.020" W (1.00mm x 0.50mm); Height: 0.016" (0.40mm); Number of Terminations: 2; Packaging: Cut Tape (CT); ComponentLink1URL: http://www.seielect.com/Catalog/SEI-RMCF.pdf; ComponentLink1Description: http://www.seielect.com/Catalog/SEI-RMCF.pdf
footprint R0402
pins: 1, 2

## RMCF0402FT365R
designator R?, comment 365R
RES TF 365 OHM 1% 1/16W 0402; Manufacturer: Stackpole Electronics Inc; Manufacturer Part Number: RMCF0402FT365R; Resistance (Ohms): 365; Power (Watts): 0.063W, 1/16W; .Checked PCB: RF; Temperature Coefficient: ±100ppm/°C; Category: Resistors; Supplier Part Number: RMCF0402FT365RCT-ND; Package / Case: 0402 (1005 Metric); Price 1k [$]: 0.00384; Tolerance: ±1%; Value: 365R; .Checked SCH: RF; Supplier: Digikey; Supplier 1: Digi-Key; Supplier Part Number 1: RMCF0402FT365RCT-ND; RoHS: RoHS Compliant; Stock 1: 28385; Pricing 1: 1=0.04, 10=0.025, 50=0.0138, 100=0.0105, 250=0.0078, 500=0.00576, 1000=0.00384 (USD); Composition: Thick Film; Features: -; Size / Dimension: 0.039" L x 0.020" W (1.00mm x 0.50mm); Height: 0.016" (0.40mm); Number of Terminations: 2; Packaging: Cut Tape (CT); ComponentLink1URL: http://www.seielect.com/Catalog/SEI-RMCF.pdf; ComponentLink1Description: http://www.seielect.com/Catalog/SEI-RMCF.pdf
footprint R0402
pins: 1, 2

## RMCF1206JT390R
designator R?, comment 0R0
No Description Available; Manufacturer_Part_Number: RMCF1206JT390R; Manufacturer 1: Stackpole-Electronics-Inc.; Vendor: Stackpole International; Built_By: EMA_UL_Team; Resistance (Ohms): 390; Tolerance: ±5%; Power (Watts): 0.25W, 1/4W; Temperature Coefficient: ±200ppm/°C; Copyright: Copyright (C) 2018 Accelerated Designs. All rights reserved; RefDes: RefDes; Type: DEV; Value: Value; Manufacturer Part Number 1: RMCF1206JT390R; Stock 1: 15000; Pricing 1: 5000=0.004, 25000=0.0038, 50000=0.0035, 125000=0.0031, 250000=0.0028 (USD); Family: Chip Resistor - Surface Mount; Series: RMCF; Packaging: Digi-Reel®; Composition: Thick Film; Features: Automotive AEC-Q200; Operating Temperature: -55°C ~ 155°C; Package / Case: 1206 (3216 Metric); Supplier Device Package: 1206; Size / Dimension: 0.126" L x 0.063" W (3.20mm x 1.60mm); Height: 0.028" (0.70mm); Number of Terminations: 2; Supplier 1: Future Electronics; Supplier Part Number 1: RMCF1206JT390R-REEL; Category: Resistors
footprint STA_RMCF1206-M
pins: 1, 2

## RMCF1206JT390R_1
designator R?, comment Part Number: RMCF1206JT390R
No Description Available; Vendor: Stackpole International; Built_By: EMA_UL_Team; Manufacturer_Part_Number: RMCF1206JT390R; Copyright: Copyright (C) 2018 Accelerated Designs. All rights reserved; RefDes: RefDes; Type: DEV; Value: Value
footprint STA_RMCF1206-M
pins: 1, 2

## SATA
designator J?
CONN SATA RECEPT 22POS SMD R/A; Manufacturer 1: Molex, LLC; Manufacturer Part Number 1: 0470182000; Connector Style: Receptacle; Number of Positions: 22; RoHS: RoHS Compliant; Stock 1: 2490; Pricing 1: 1=6.29, 10=6.028, 25=5.5036, 50=5.2414, 100=4.9793, 250=4.4552, 500=4.19312, 1000=3.66898, 2500=3.48553 (USD); Packaging: Tray; Part Status: Active; Connector Type: SATA; Mounting Type: Surface Mount, Right Angle; Termination: Solder; Features: Board Lock; Contact Finish: Gold; Contact Finish Thickness: Flash; ComponentLink1URL: https://www.molex.com/pdm_docs/sd/470182000_sd.pdf; ComponentLink1Description: https://www.molex.com/pdm_docs/sd/470182000_sd.pdf; Supplier 1: Digi-Key; Supplier Part Number 1: WM4050-ND; Description 1: CONN SATA RECEPT 22POS SMD R/A; Category: Connectors, Interconnects
footprint SATA_Recepticle (22 Pin Sata Connector)
pins: 1, 2, 3, 4, 5, 6, 7, 8, 9, 10, 11, 12, 13, 14, 15, 16, 17, 18, 19, 20, 21, 22, 23
text: 12V; GND; 5V; 3.3V; RX+; RX-; TX-; TX+

## Sata Cable
designator CBL?, comment Alfais AL-4617 Sata Power
Link: https://www.hepsiburada.com/alfais-al-4617-sata-power-uzatma-kablosu-15-7-pin-erkek-disi-p-HBV0000036H5X?magaza=Evaletim&wt_gl=cpc.elk.bilgisayar-diger.pla&gclid=CjwKCAjwqarbBRBtEiwArlfEIASQuXBo12kuMcANrOEiBIck8mIu7ZL_Q8g_5a_TDIHKOnPRLHuDrhoCfg0QAvD_BwE; Manufacturer 1: Alfais; Description 1: Alfais AL-4617 Sata Power
text: 12V; GND; 5V; 3.3V; RX+; RX-; TX-; TX+; SATA Extention Cable

## SCREWM2.5X16
designator SCR?, comment M2.5 x 16mm
MACH SCREW PAN SLOTTED M2.5X0.45; Manufacturer 1: Keystone Electronics; Manufacturer Part Number 1: 29306; Screw Head Type: Pan Head; Head Diameter: 0.189" (4.80mm); Head Height: 0.055" (1.40mm); Plating: Zinc, Clear Chromate; RoHS: RoHS Compliant; Stock 1: 2801; Pricing 1: 1=0.45, 10=0.397, 50=0.2896, 100=0.2782, 250=0.2498, 1000=0.1996, 2500=0.18168, 5000=0.17033 (USD); Part Status: Active; Type: Machine Screw; Drive Type: Slotted; Features: -; Thread Size: M2.5x0.45; Length - Below Head: 0.630" (16.00mm); Length - Overall: 0.685" (17.40mm); Material: Steel; ComponentLink1URL: http://www.keyelco.com/product-pdf.cfm?p=4571; ComponentLink1Description: http://www.keyelco.com/product-pdf.cfm?p=4571; Supplier 1: Digi-Key; Supplier Part Number 1: 36-29306-ND; Description 1: MACH SCREW PAN SLOTTED M2.5X0.45; Category: Hardware, Fasteners, Accessories

## SI4816BDY-T1-GE3
designator Q?
MOSFET DL N-CH 30V 6.8A 8-SOIC; Manufacturer: Vishay/Siliconix; .Checked PCB: used; FET Type: 2 N-Channel (Dual); FET Feature: Logic Level Gate; Rds On (Max) @ Id, Vgs: 18.5 mOhm @ 6.8A, 10V; Current - Continuous Drain (Id) @ 25° C: 5.8A, 8.2A; Vgs(th) (Max) @ Id: 3V @ 250µA; Power - Max: 1W, 1.25W; Gate Charge (Qg) @ Vgs: 10nC @ 5V; .Checked SCH: used; Category: Discrete Semiconductor Products; Manufacturer Part Number: SI4816BDY-T1-GE3; Package / Case: 8-SOIC (0.154", 3.90mm Width); Price 1k [$]: 0.84800; Value: SI4816BDY-T1-GE3; Family: FETs - Arrays; Drain to Source Voltage (Vdss): 30V; Supplier Part Number: SI4816BDY-T1-GE3CT-ND; Supplier: Digikey; Supplier 1: Digi-Key; Supplier Part Number 1: SI4816BDY-T1-GE3CT-ND; RoHS: RoHS Compliant; Stock 1: 15735; Pricing 1: 1=1.84, 25=1.4228, 100=1.2912, 250=1.1594, 500=1.0013, 1000=0.8432 (USD); Input Capacitance (Ciss) @ Vds: -; Mounting Type: Surface Mount; Supplier Device Package: 8-SOICN; Packaging: Cut Tape (CT); ComponentLink1URL: http://www.vishay.com/docs/73026/si4816bd.pdf; ComponentLink1Description: http://www.vishay.com/docs/73026/si4816bd.pdf
footprint 8_SOIC_3.9MM
pins: 1 G1, 2 A/S2_1, 3 A/S2_2, 4 G2, 5 D2/S1_1, 6 D2/S1_2, 7 D2/S1_3, 8 D1

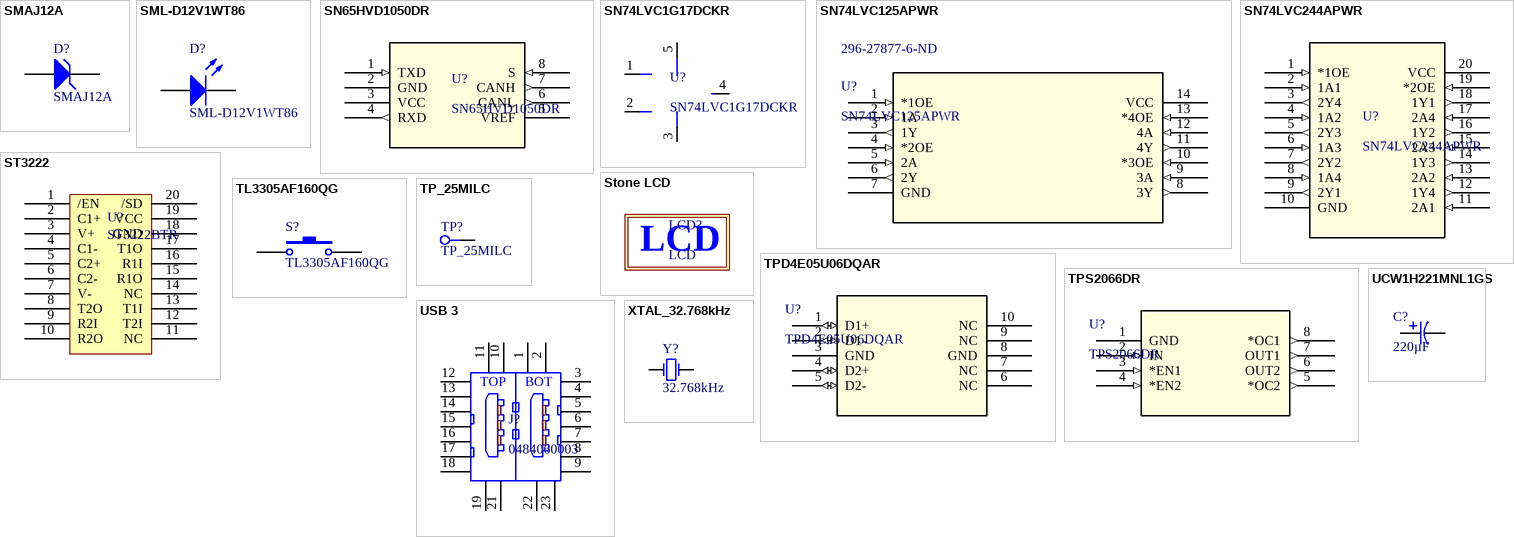
[diagram p3: symbols SMAJ12A to XTAL_32.768kHz]

## SMAJ12A
designator D?
TVS DIODE 12V 19.9V SMA; Manufacturer 1: Bourns Inc.; Type: Zener; Voltage - Breakdown (Min): 13.3V; Current - Peak Pulse (10/1000µs): 20.1A; Power - Peak Pulse: 400W; Power Line Protection: No; Published: 8-Jun-2000; LatestRevisionDate: 17-Jul-2002; LatestRevisionNote: Re-released for DXP Platform.; PackageReference: DIODE-0.7; Publisher: Altium Limited; PackageDescription: Diode, Thru-Hole; 2 Leads; 0.7 in Pin Spacing; Manufacturer Part Number 1: SMAJ12A; RoHS: RoHS Compliant; Stock 1: 20326; Pricing 1: 1=0.47, 10=0.329, 25=0.27, 100=0.216, 250=0.15712, 500=0.12766, 1000=0.0982, 2500=0.08838 (USD); Packaging: Cut Tape (CT); Part Status: Active; Voltage - Reverse Standoff (Typ): 12V; Voltage - Clamping (Max) @ Ipp: 19.9V; Applications: General Purpose; Capacitance @ Frequency: -; Operating Temperature: -55°C ~ 150°C (TJ); Mounting Type: Surface Mount; Package / Case: DO-214AC, SMA; Supplier Device Package: SMA (DO-214AC); ComponentLink1URL: https://www.bourns.com/docs/Product-Datasheets/SMAJ.pdf; ComponentLink1Description: https://www.bourns.com/docs/Product-Datasheets/SMAJ.pdf; Supplier 1: Digi-Key; Supplier Part Number 1: SMAJ12ABCT-ND; Description 1: TVS DIODE 12V 19.9V SMA; Category: Circuit Protection
footprint SMA / DO-214AC
pins: 1 A, 2 K

## SML-D12V1WT86
designator D?
LED RED DIFFUSED 1608 SMD; Manufacturer 1: Rohm Semiconductor; Lens Color: White; Millicandela Rating: 40mcd; Lens Style/Size: Rectangle with Flat Top, 1.20mm x 0.80mm; Voltage - Forward (Vf) (Typ): 2.2V; Current - Test: 20mA; Wavelength - Dominant: 630nm; Manufacturer Part Number 1: SML-D12V1WT86; Stock 1: 3000; Pricing 1: 3000=0.0245, 6000=0.023, 12000=0.0217, 18000=0.0205, 30000=0.0199 (USD); Family: LED Indication - Discrete; Series: SML-D12; Packaging: Tape & Reel (TR); Color: Red; Lens Transparency: Diffused; Viewing Angle: -; Mounting Type: Surface Mount; Wavelength - Peak: -; Features: -; Package / Case: 0603 (1608 Metric); Supplier Device Package: 1608 (0603); Size / Dimension: 1.60mm L x 0.80mm W; Height (Max): 0.65mm; ComponentLink1URL: http://www.rohm.com/web/global/datasheet/SML-D12V1W?src-supplier=Digi-Key; ComponentLink1Description: http://www.rohm.com/web/global/datasheet/SML-D12V1W?src-supplier=Digi-Key; ComponentLink2URL: https://www.rohm.com/datasheet/SML-D12V1W?src-supplier=Digi-Key; ComponentLink2Description: https://www.rohm.com/datasheet/SML-D12V1W?src-supplier=Digi-Key; Supplier 1: Avnet; Supplier Part Number 1: SML-D12V1WT86; Description 1: LED RED DIFFUSED 1608 SMD; Category: Optoelectronics; .Checked SCH: *; .Checked PCB: *
footprint D0603_Directional (0603 Case Diode)
pins: 1 A, 2 K

## SN65HVD1050DR
designator U?
IC EMC CAN TRANSCEIVER 8-SOIC; Manufacturer: Texas Instruments; Built_By: EMA_UL_Team; C: Copyright (C) 2015 Accelerated Designs. All rights reserved; Protocol: CANbus; Number of Drivers/Receivers: 1/1; Duplex: Half; Voltage - Supply: 4.5 V ~ 5.5 V; Vendor: Texas Instruments; Manufacturer_Part_Number: SN65HVD1050DR; RefDes: RefDes; Type: DEV; Value: Value; Manufacturer 1: Texas Instruments; Manufacturer Part Number 1: SN65HVD1050DR; RoHS: RoHS Compliant; Stock 1: 82774; Pricing 1: 1=1.36, 10=1.215, 100=0.9476, 500=0.7828, 1000=0.618 (USD); Packaging: Cut Tape (CT); Part Status: Active; Data Rate: -; Operating Temperature: -40°C ~ 125°C; Mounting Type: Surface Mount; Package / Case: 8-SOIC (0.154", 3.90mm Width); Supplier Device Package: 8-SOIC; Base Part Number: SN65HVD1050; ComponentLink1URL: http://www.ti.com/lit/ds/symlink/sn65hvd1050.pdf; ComponentLink1Description: http://www.ti.com/lit/ds/symlink/sn65hvd1050.pdf; Supplier 1: Digi-Key; Supplier Part Number 1: 296-26335-1-ND; Description 1: IC EMC CAN TRANSCEIVER 8-SOIC; Category: Integrated Circuits (ICs)
footprint D8
pins: 1 TXD (in), 2 GND (power), 3 VCC (power), 4 RXD (out), 5 VREF (power), 6 CANL (out), 7 CANH (out), 8 S (in)

## SN74LVC1G17DCKR
designator U?
Manufacturer: Texas Instruments; Built_By: EMA_UL_Team; C: Copyright (C) 2015 Accelerated Designs. All rights reserved; Logic Type: Buffer, Non-Inverting; Number of Bits per Element: 1; Input Type: Schmitt Trigger; Output Type: Push-Pull; Current - Output High, Low: 32mA, 32mA; Voltage - Supply: 1.65 V ~ 5.5 V; Description 1: IC BUF NON-INVERT 5.5V SC70-5; Vendor: Texas Instruments; Manufacturer_Part_Number: SN74LVC1G17DCKR; RefDes: RefDes; Type: DEV; Value: Value; Manufacturer 1: Texas Instruments; Manufacturer Part Number 1: SN74LVC1G17DCKR; RoHS: RoHS Compliant; Stock 1: 206797; Pricing 1: 1=0.43, 10=0.32, 100=0.1996, 500=0.13658, 1000=0.10506 (USD); Packaging: Digi-Reel®; Part Status: Active; Operating Temperature: -40°C ~ 125°C (TA); Mounting Type: Surface Mount; Package / Case: 5-TSSOP, SC-70-5, SOT-353; Supplier Device Package: SC-70-5; Base Part Number: 74LVC1G17; ComponentLink1URL: http://www.ti.com/lit/ds/symlink/sn74lvc1g17.pdf; ComponentLink1Description: http://www.ti.com/lit/ds/symlink/sn74lvc1g17.pdf; Supplier 1: Digi-Key; Supplier Part Number 1: 296-11934-6-ND; Category: Integrated Circuits (ICs)
footprint DCK5
footprint DCK5-L
footprint DCK5-M
pins: 1 NC, 2 A, 3 GND, 4 Y, 5 VCC

## SN74LVC125APWR
designator U?  Supplier Part Number 1: 296-27877-6-ND
IC BUF NON-INVERT 3.6V 14TSSOP; Manufacturer: Texas Instruments; Manufacturer Part Number 1: SN74LVC125APWRG3; Built_By: EMA_UL_Team; C: Copyright (C) 2015 Accelerated Designs. All rights reserved; Logic Type: Buffer, Non-Inverting; Number of Bits per Element: 1; Output Type: 3-State; Current - Output High, Low: 24mA, 24mA; Voltage - Supply: 1.65 V ~ 3.6 V; Vendor: Texas Instruments; Manufacturer_Part_Number: SN74LVC125APWR; RefDes: RefDes; Type: DEV; Value: Value; Manufacturer 1: Texas Instruments; RoHS: RoHS Compliant; Stock 1: 2051; Pricing 1: 1=0.42, 10=0.339, 100=0.2307, 500=0.17304, 1000=0.12978 (USD); Packaging: Digi-Reel®; Part Status: Active; Input Type: -; Operating Temperature: -40°C ~ 125°C (TA); Mounting Type: Surface Mount; Package / Case: 14-TSSOP (0.173", 4.40mm Width); Supplier Device Package: 14-TSSOP; Base Part Number: 74LVC125; ComponentLink1URL: http://www.ti.com/lit/ds/symlink/sn74lvc125a.pdf; ComponentLink1Description: http://www.ti.com/lit/ds/symlink/sn74lvc125a.pdf; Supplier 1: Digi-Key; Description 1: IC BUF NON-INVERT 3.6V 14TSSOP; Category: Integrated Circuits (ICs)
footprint PW14
footprint PW14-L
footprint PW14-M
pins: 1 *1OE (in), 2 1A (in), 3 1Y (out), 4 *2OE (in), 5 2A (in), 6 2Y (out), 7 GND (power), 8 3Y (out), 9 3A (in), 10 *3OE (in), 11 4Y (out), 12 4A (in), 13 *4OE (in), 14 VCC (power)

## SN74LVC244APWR
designator U?
IC BUF NON-INVERT 3.6V 20TSSOP; Manufacturer: Texas Instruments; Built_By: EMA_UL_Team; C: Copyright (C) 2015 Accelerated Designs. All rights reserved; Logic Type: Buffer, Non-Inverting; Number of Bits per Element: 4; Output Type: 3-State; Current - Output High, Low: 24mA, 24mA; Voltage - Supply: 1.65 V ~ 3.6 V; Vendor: Vendor; Manufacturer_Part_Number: SN74LVC244APWR; RefDes: RefDes; Type: DEV; Value: Value; Manufacturer 1: Texas Instruments; Manufacturer Part Number 1: SN74LVC244APWR; RoHS: RoHS Compliant; Stock 1: 67361; Pricing 1: 1=0.47, 10=0.402, 100=0.2999, 500=0.23566, 1000=0.1821 (USD); Packaging: Digi-Reel®; Part Status: Active; Input Type: -; Operating Temperature: -40°C ~ 125°C (TA); Mounting Type: Surface Mount; Package / Case: 20-TSSOP (0.173", 4.40mm Width); Supplier Device Package: 20-TSSOP; Base Part Number: 74LVC244; ComponentLink1URL: http://www.ti.com/lit/ds/symlink/sn74lvc244a.pdf; ComponentLink1Description: http://www.ti.com/lit/ds/symlink/sn74lvc244a.pdf; Supplier 1: Digi-Key; Supplier Part Number 1: 296-1230-6-ND; Description 1: IC BUF NON-INVERT 3.6V 20TSSOP; Category: Integrated Circuits (ICs)
footprint PW20-L
footprint PW20-M
footprint PW20
pins: 1 *1OE (in), 2 1A1 (in), 3 2Y4 (out), 4 1A2 (in), 5 2Y3 (out), 6 1A3 (in), 7 2Y2 (out), 8 1A4 (in), 9 2Y1 (out), 10 GND (power), 11 2A1 (in), 12 1Y4 (out), 13 2A2 (in), 14 1Y3 (out), 15 2A3 (in), 16 1Y2 (out), 17 2A4 (in), 18 1Y1 (out), 19 *2OE (in), 20 VCC (power)

## ST3222
designator U?, comment ST3222BTR
ST Dual RS232 Transceiver; Manufacturer: STMicroelectronics; Number of Drivers/Receivers: 2/2; Duplex: Full; Data Rate: 250kbps; Voltage - Supply: 3 V ~ 3.6 V; Digikey P/N: 497-5845-2-ND; Supplier 1: Digi-Key; Manufacturer Part Number: ST3222BTR; RoHS: RoHS Compliant; Category: Integrated Circuits (ICs); Stock 1: 3074; Pricing 1: 1=1.32, 10=1.183, 100=0.9225, 500=0.76206, 1000=0.60162 (USD); Packaging: Cut Tape (CT); Part Status: Active; Type: Transceiver; Protocol: RS232; Operating Temperature: -40°C ~ 85°C; Mounting Type: Surface Mount; Package / Case: 20-TSSOP (0.173", 4.40mm Width); Supplier Device Package: 20-TSSOP; Base Part Number: ST3222; ComponentLink1URL: http://www.st.com/content/ccc/resource/technical/document/datasheet/a7/2a/91/f8/35/8c/40/de/CD00002292.pdf/files/CD00002292.pdf/jcr:content/translations/en.CD00002292.pdf; ComponentLink1Description: http://www.st.com/content/ccc/resource/technical/document/datasheet/a7/2a/91/f8/35/8c/40/de/CD00002292.pdf/files/CD00002292.pdf/jcr:content/translations/en.CD00002292.pdf; Supplier Part Number 1: 497-5845-1-ND
footprint TSSOP20 (SO20 - 20 Leads; Body Width 7.5 mm; Pitch 1.27 mm)
pins: 1 /EN, 2 C1+, 3 V+, 4 C1-, 5 C2+, 6 C2-, 7 V-, 8 T2O, 9 R2I, 10 R2O, 11 NC, 12 T2I, 13 T1I, 14 NC, 15 R1O, 16 R1I, 17 T1O, 18 GND, 19 VCC, 20 /SD

## Stone LCD
designator LCD?, comment LCD
STONE 5.7 inch touch TFT and control LCD digital clock display; Manufacturer Part Number: STA057WT-01; Manufacturer: stone-hmi.com; Resolution: 640x480; Link: http://www.stone-hmi.com/newsitem/276939483